# Altium schematic symbol library AMS_family.SchLib: 7 symbols
Pins are listed as number, name and electrical type; pins without a type are passive.

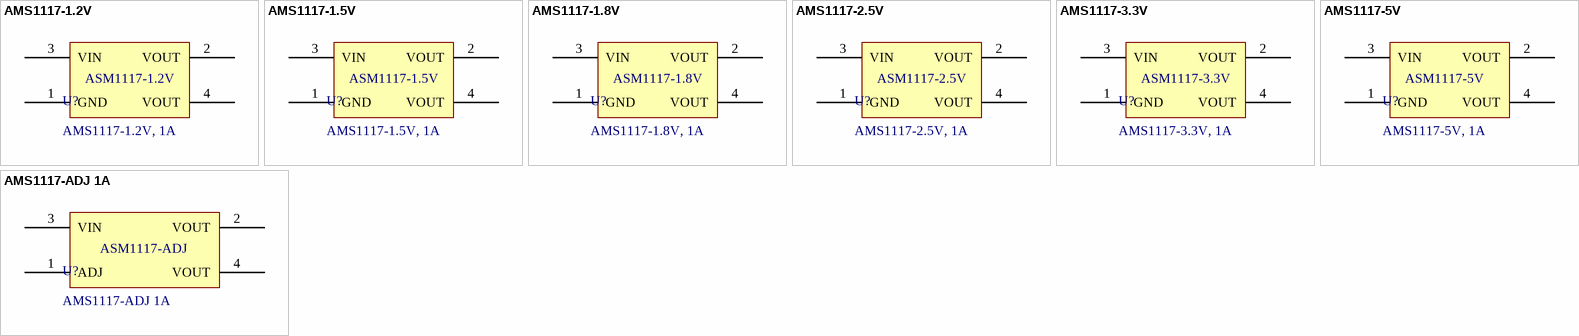
[diagram p0: symbols AMS1117-1.2V to AMS1117-ADJ 1A]

## AMS1117-1.2V
designator U?, comment AMS1117-1.2V, 1A
AMS1117-1.2V, OUT 1.2V 1A.; Manufacturer: AMS; Pad Count: 4; Voltage Input Maximum: 15V; Manufacturer Part Number: N/A; Current Input Maximum: N/A; Current Output Maximum: 1A; Voltage Output: 1.2V; Supplier 1 URL: N/A; Supplier 2 URL: N/A; Supplier 3 URL: https://www.thegioiic.com/ams1117-1-2v-ic-on-ap-1-2v-1a-sot-223; Value: AMS1117-1.2V, 1A; Mount: SMD/SMT; Operating Temperature Max: + 85 C; Operating Temperature Min: - 40 C; Packaging: Tape and Reel; Supplier 1: Mouser; Supplier 1 Part Number: N/A; Supplier 2: Digi-Key; Supplier 2 Part Number: N/A; Supplier 3: thegioiic; Supplier 3 Part Number: N/A; ComponentLink1Description: Datasheet; ComponentLink1URL: N/A; LCSC Part #: N/A
footprint AMS1117-1.2V SOT223 (SOT223, 4-Leads, Body 6.51x7.00mm, Pitch 2.29mm)
pins: 1 GND (power), 2 VOUT, 3 VIN, 4 VOUT (power)
text: ASM1117-1.2V

## AMS1117-1.5V
designator U?, comment AMS1117-1.5V, 1A
AMS1117-1.5V, OUT 1.5V 1A.; Manufacturer: AMS; Pad Count: 4; Voltage Input Maximum: 15V; Manufacturer Part Number: N/A; Current Input Maximum: N/A; Current Output Maximum: 1A; Voltage Output: 1.5V; Supplier 1 URL: N/A; Supplier 2 URL: N/A; Supplier 3 URL: https://www.thegioiic.com/ams1117-1-5v-ic-on-ap-1-5v-1a-sot-223; Value: AMS1117-1.5V, 1A; Mount: SMD/SMT; Operating Temperature Max: + 85 C; Operating Temperature Min: - 40 C; Packaging: Tape and Reel; Supplier 1: Mouser; Supplier 1 Part Number: N/A; Supplier 2: Digi-Key; Supplier 2 Part Number: N/A; Supplier 3: thegioiic; Supplier 3 Part Number: N/A; ComponentLink1Description: Datasheet; ComponentLink1URL: http://www.ams-semitech.com/attachments/File/AMS1117_20120314.pdf; LCSC Part #: N/A
footprint AMS1117-1.5V SOT223 (SOT223, 4-Leads, Body 6.51x7.00mm, Pitch 2.29mm)
pins: 1 GND (power), 2 VOUT, 3 VIN, 4 VOUT (power)
text: ASM1117-1.5V

## AMS1117-1.8V
designator U?, comment AMS1117-1.8V, 1A
AMS1117-1.8V, OUT 1.8V 1A.; Manufacturer: AMS; Pad Count: 4; Voltage Input Maximum: 15V; Manufacturer Part Number: N/A; Current Input Maximum: N/A; Current Output Maximum: 1A; Voltage Output: 1.8V; Supplier 1 URL: N/A; Supplier 2 URL: N/A; Supplier 3 URL: https://www.thegioiic.com/ams1117-1-8v-ic-on-ap-1-8v-1a-sot-223; Value: AMS1117-1.8V, 1A; Mount: SMD/SMT; Operating Temperature Max: + 85 C; Operating Temperature Min: - 40 C; Packaging: Tape and Reel; Supplier 1: Mouser; Supplier 1 Part Number: N/A; Supplier 2: Digi-Key; Supplier 2 Part Number: N/A; Supplier 3: thegioiic; Supplier 3 Part Number: N/A; ComponentLink1Description: Datasheet; ComponentLink1URL: N/A; LCSC Part #: N/A
footprint AMS1117-1.8V SOT223 (SOT223, 4-Leads, Body 6.51x7.00mm, Pitch 2.29mm)
pins: 1 GND (power), 2 VOUT, 3 VIN, 4 VOUT (power)
text: ASM1117-1.8V

## AMS1117-2.5V
designator U?, comment AMS1117-2.5V, 1A
AMS1117-2.5V, OUT 2.5V 1A.; Manufacturer: AMS; Pad Count: 4; Voltage Input Maximum: 15V; Manufacturer Part Number: N/A; Current Input Maximum: N/A; Current Output Maximum: 1A; Voltage Output: 2.5V; Supplier 1 URL: N/A; Supplier 2 URL: N/A; Supplier 3 URL: https://www.thegioiic.com/ams1117-2-5v-ic-on-ap-2-5v-1a-sot-223; Value: AMS1117-2.5V, 1A; Mount: SMD/SMT; Operating Temperature Max: + 85 C; Operating Temperature Min: - 40 C; Packaging: Tape and Reel; Supplier 1: Mouser; Supplier 1 Part Number: N/A; Supplier 2: Digi-Key; Supplier 2 Part Number: N/A; Supplier 3: thegioiic; Supplier 3 Part Number: N/A; ComponentLink1Description: Datasheet; ComponentLink1URL: http://www.advanced-monolithic.com/pdf/ds1117.pdf; LCSC Part #: N/A
footprint AMS1117-2.5V SOT223 (SOT223, 4-Leads, Body 6.51x7.00mm, Pitch 2.29mm)
pins: 1 GND (power), 2 VOUT, 3 VIN, 4 VOUT (power)
text: ASM1117-2.5V

## AMS1117-3.3V
designator U?, comment AMS1117-3.3V, 1A
AMS1117-3.3V, OUT 3.3V 1A.; Manufacturer: AMS; Pad Count: 4; Voltage Input Maximum: 15V; Manufacturer Part Number: N/A; Current Input Maximum: N/A; Current Output Maximum: 1A; Voltage Output: 3.3V; Supplier 1 URL: N/A; Supplier 2 URL: N/A; Supplier 3 URL: https://www.thegioiic.com/ams1117-3-3v-ic-on-ap-3-3v-1a-sot-223; Value: AMS1117-3.3V, 1A; Mount: SMD/SMT; Operating Temperature Max: + 85 C; Operating Temperature Min: - 40 C; Packaging: Tape and Reel; Supplier 1: Mouser; Supplier 1 Part Number: N/A; Supplier 2: Digi-Key; Supplier 2 Part Number: N/A; Supplier 3: thegioiic; Supplier 3 Part Number: N/A; ComponentLink1Description: Datasheet; ComponentLink1URL: http://www.advanced-monolithic.com/pdf/ds1117.pdf; LCSC Part #: C347222
footprint AMS1117-3.3V SOT223 (SOT223, 4-Leads, Body 6.51x7.00mm, Pitch 2.29mm)
pins: 1 GND (power), 2 VOUT, 3 VIN, 4 VOUT (power)
text: ASM1117-3.3V

## AMS1117-5V
designator U?, comment AMS1117-5V, 1A
AMS1117-5V, OUT 5V 1A.; Manufacturer: AMS; Pad Count: 4; Voltage Input Maximum: 15V; Manufacturer Part Number: N/A; Current Input Maximum: N/A; Current Output Maximum: 1A; Voltage Output: 5V; Supplier 1 URL: N/A; Supplier 2 URL: N/A; Supplier 3 URL: https://www.thegioiic.com/ams1117-5-0v-ic-on-ap-5v-1a-sot-223; Value: AMS1117-5V, 1A; Mount: SMD/SMT; Operating Temperature Max: + 85 C; Operating Temperature Min: - 40 C; Packaging: Tape and Reel; Supplier 1: Mouser; Supplier 1 Part Number: N/A; Supplier 2: Digi-Key; Supplier 2 Part Number: N/A; Supplier 3: thegioiic; Supplier 3 Part Number: N/A; ComponentLink1Description: Datasheet; ComponentLink1URL: N/A; LCSC Part #: N/A
footprint AMS1117-5V SOT223 (SOT223, 4-Leads, Body 6.51x7.00mm, Pitch 2.29mm)
pins: 1 GND (power), 2 VOUT, 3 VIN, 4 VOUT (power)
text: ASM1117-5V

## AMS1117-ADJ 1A
designator U?
AMS1117-ADJ, OUT 1.2V-5V 800mA, IN 15V 1A; Manufacturer: UMW; Manufacturer Part Number: AMS1117-1.2; Pad Count: 4; Voltage Output: 1.2 - 5V; Current Input Maximum: 1A; Current Output Maximum: 800mA; Voltage Input Maximum: 15V; Supplier 1 URL: N/A; Supplier 2 URL: https://www.digikey.com/en/products/detail/umw/AMS1117-1-2/17635209; Supplier 3 URL: https://www.thegioiic.com/ams1117-adj-ic-dieu-chinh-dien-ap-1a-sot-223; Value: AMS1117-ADJ 1A; Mount: SMD/SMT; Operating Temperature Max: + 85 C; Operating Temperature Min: - 40 C; Packaging: Tape and Reel; Supplier 1: Mouser; Supplier 1 Part Number: N/A; Supplier 2: Digi-Key; Supplier 2 Part Number: 4518-AMS1117-1.2TR-ND; Supplier 3: thegioiic; Supplier 3 Part Number: N/A; ComponentLink1Description: Datasheet; ComponentLink1URL: https://media.digikey.com/pdf/Data%20Sheets/UTD%20Semi%20PDFs/AMS1117.pdf; LCSC Part #: N/A
footprint AMS1117-ADJ SOT223 (SOT223, 4-Leads, Body 6.51x7.00mm, Pitch 2.29mm)
pins: 1 ADJ (power), 2 VOUT, 3 VIN, 4 VOUT (power)
text: ASM1117-ADJ